# EAGLE library part MAX232 (library ruark2)
2/2 Transceiver Full RS232 16-SOIC
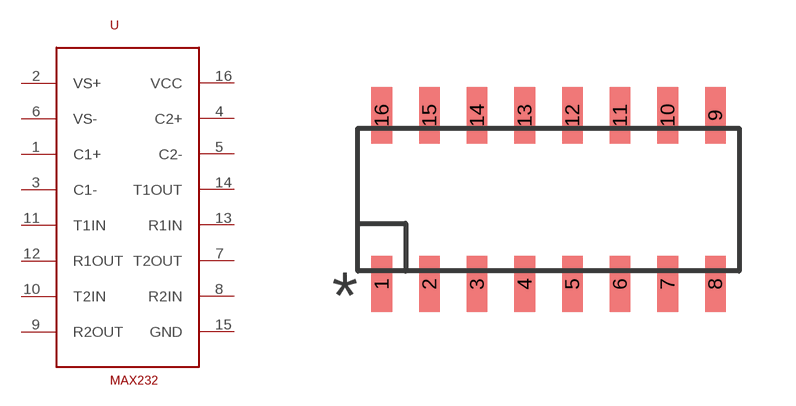
[diagram p6: symbol with the pads of SOIC16; footprint SOIC16]

Designator prefix U

## MAX232 (PARTNO: 296-26141-1-ND)  [SOIC16]
1  C1+
2  VS+
3  C1-
4  C2+
5  C2-
6  VS-
7  T2OUT
8  R2IN
9  R2OUT
10  T2IN
11  T1IN
12  R1OUT
13  R1IN
14  T1OUT
15  GND
16  VCC

## Footprint SOIC16 (pad centres in mm)
smd 0.549 x 1.499: 1 -4.445,-2.25; 2 -3.175,-2.25; 3 -1.905,-2.25; 4 -0.635,-2.25; 5 0.635,-2.25; 6 1.905,-2.25; 7 3.175,-2.25; 8 4.445,-2.25; 9 4.445,2.25; 10 3.175,2.25; 11 1.905,2.25; 12 0.635,2.25; 13 -0.635,2.25; 14 -1.905,2.25; 15 -3.175,2.25; 16 -4.445,2.25